# Altium footprint library CCD_CAM_BOARD_PCB_v3.PcbLib: 39 footprints (part 3 of 3)
Each footprint in its own frame and in the unit in brackets; x right, y up, seen from the top. Pads: shape width x height; smd on the part's side, far side on the other; paste and mask are expansions set on the pad; w line width, h text height; cw(c..) or ccw(c..) is an arc to the next point about the centre after c.
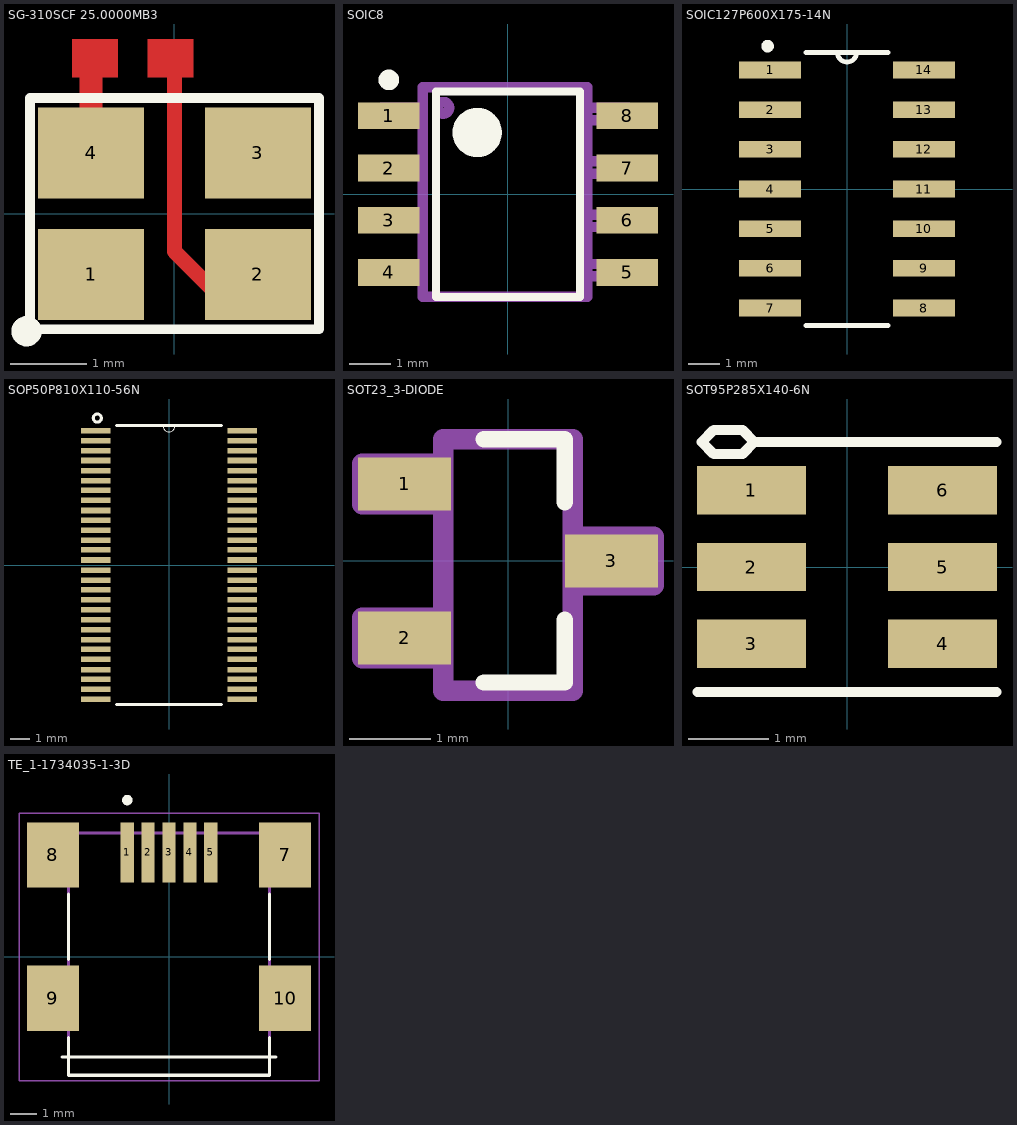
[diagram p2: the footprints below, top view; thin cyan lines are the x and y axes]

## SG-310SCF 25.0000MB3 [mm] "TAL OSC XO 25.0000MHZ CMOS SMD"
height 1.05
pads (4):
  rect 1.4x1.2 smd: 1(-1.1,-0.8) 2(1.1,-0.8) 3(1.1,0.8) 4(-1.1,0.8)
Top Layer:
  region: -1.35,2.3 -1.35,1.8 -0.75,1.8 -0.75,2.3
  region: -0.35,2.3 -0.35,1.8 0.25,1.8 0.25,2.3
  lines w0.2: 0,2.05 0,2.049 0,-0.5 0.5,-1
  lines w0.3: -1.1,0.8 -1.1,1.575 -1.1,1.616 -1.1,2.05
Top Overlay:
  circle w0.2: c-1.95,-1.55 r0.1
  lines w0.127: -1.905,-1.524 1.905,-1.524 1.905,1.524 -1.905,1.524 -1.905,-1.524
3D body "SG-310SCF.SLDPRT": height 0, standoff 0, extent -1.6,-1.25 -1.6,-1.25

## SOIC8 [mm] "8-SOIC (0.154\", 3.90mm Width)"
height 1.75
pads (8):
  rect 1.5x0.65 smd: 1(-2.9,1.905) 2(-2.9,0.635) 3(-2.9,-0.635) 4(-2.9,-1.905) 5(2.9,-1.905) 6(2.9,-0.635) 7(2.9,0.635) 8(2.9,1.905)
Top Overlay:
  circle w0.6: c-0.75,1.5 r0.3
  circle w0.25: c-2.9,2.78 r0.125
  lines w0.2: -1.75,-2.5 1.75,-2.5 1.75,2.5 -1.75,2.5 -1.75,-2.5
Top Designator:
  circle w0.254: c-1.575,2.1 r0.141
  lines w0.254: -2.075,-2 -3.075,-2 -3.075,-1.7 -2.075,-1.7 ; -2.075,-0.8 -3.075,-0.8 -3.075,-0.5 -2.075,-0.5 ; -2.075,0.5 -3.075,0.5 -3.075,0.8 -2.075,0.8 ; -2.075,1.8 -3.075,1.8 -3.075,2.1 -2.075,2.1 ; 1.925,-2 2.925,-2 2.925,-1.7 1.925,-1.7 ; 1.925,-0.8 2.925,-0.8 2.925,-0.5 1.925,-0.5 ; 1.925,0.5 2.925,0.5 2.925,0.8 1.925,0.8 ; 1.925,1.8 2.925,1.8 2.925,2.1 1.925,2.1 ; -2.075,-2.5 -2.075,2.6 1.925,2.6 1.925,-2.5 -2.075,-2.5
  text ".Designator" at -7.618,-0.508 h1.52
3D body "SOIC8.step": height 1.75, standoff 0.02, extent -2.96,-2.5 2.96,2.5

## SOIC127P600X175-14N [mil]
pads (14):
  rect 78x21 smd: 1(-97,150) 2(-97,100) 3(-97,50) 4(-97,0) 5(-97,-50) 6(-97,-100) 7(-97,-150) 8(97,-150) 9(97,-100) 10(97,-50) 11(97,0) 12(97,50) 13(97,100) 14(97,150)
Top Overlay:
  circle w7.87: c-100,180 r3.94
  lines w6: -52,-172 52,-172 ; -52,172 -12,172 ; 52,172 12,172 ; -12,172 ccw(c0,172) 12,172 ; -12,172 12,172
3D body "SOIC-14_NB.step": height 69.09, standoff 0, extent -122.01,-170.51 122.01,170.51

## SOP50P810X110-56N [mil]
pads (56):
  rect 58x11 smd: 1(-145,266) 2(-145,246) 3(-145,226) 4(-145,207) 5(-145,187) 6(-145,167) 7(-145,148) 8(-145,128) 9(-145,108) 10(-145,89) 11(-145,69) 12(-145,49) 13(-145,30) 14(-145,10) 15(-145,-10) 16(-145,-30) 17(-145,-49) 18(-145,-69) 19(-145,-89) 20(-145,-108) 21(-145,-128) 22(-145,-148) 23(-145,-167) 24(-145,-187) 25(-145,-207) 26(-145,-226) 27(-145,-246) 28(-145,-266) 29(145,-266) 30(145,-246) 31(145,-226) 32(145,-207) 33(145,-187) 34(145,-167) 35(145,-148) 36(145,-128) 37(145,-108) 38(145,-89) 39(145,-69) 40(145,-49) 41(145,-30) 42(145,-10) 43(145,10) 44(145,30) 45(145,49) 46(145,69) 47(145,89) 48(145,108) 49(145,128) 50(145,148) 51(145,167) 52(145,187) 53(145,207) 54(145,226) 55(145,246) 56(145,266)
Top Overlay:
  lines w0: -141,283 cw(c-141.98,291) -141,299 ; -12,276 ccw(c0,276) 12,276
  lines w6: -104,-276 104,-276 ; -104,276 -12,276 12,276 104,276 ; -150,291 cw(c-142,291) -134,291 cw(c-142,291) -150,291
3D body "lm98725_foot.stp": height 43.31, standoff 0, extent -161.83,-275.59 157.89,275.59

## SOT23_3-DIODE [mm] "TO-236-3, SC-59, SOT-23-3"
height 1.1
pads (3):
  rect 1.15x0.65 smd: 1(-1.275,0.95) 2(-1.275,-0.95) 3(1.275,0)
Top Overlay:
  lines w0.2: -0.3,-1.5 0.7,-1.5 0.7,-0.725 ; -0.3,1.5 0.7,1.5 0.7,0.725
Top Designator:
  lines w0.254: -0.8,-1.2 -1.8,-1.2 -1.8,-0.7 -0.8,-0.7 ; -0.8,0.7 -1.8,0.7 -1.8,1.2 -0.8,1.2 ; 0.8,-0.3 1.8,-0.3 1.8,0.3 0.8,0.3 ; -0.8,-1.6 -0.8,1.5 0.8,1.5 0.8,-1.6 -0.8,-1.6
  text ".Designator" at -0.254,3.809 h0.76
3D body "SOT23_FMMT493TA.step": height 1.1, standoff 0, extent -1.25,-1.5 1.25,1.5

## SOT95P285X140-6N [mm]
pads (6):
  rect 1.35x0.6 smd: 1(-1.185,0.95) 2(-1.185,0) 3(-1.185,-0.95) 4(1.185,-0.95) 5(1.185,0) 6(1.185,0.95)
Top Overlay:
  lines w0.127: -1.85,-1.55 1.85,-1.55 ; 1.85,1.55 -0.65,1.55 -1.15,1.55 ; -1.15,1.55 -1.3,1.7 -1.65,1.7 -1.8,1.55 -1.65,1.4 -1.3,1.4 -1.15,1.55
3D body "sot-23-6.STEP": height 1.12, standoff 0, extent -1.395,-1.45 1.45,1.471

## TE_1-1734035-1-3D [mm]
pads (9):
  rect 0.5x2.3 smd: 1(-1.6,4) 2(-0.8,4) 3(0,4) 4(0.8,4) 5(1.6,4)
  rect 2x2.5 smd: 7(4.45,3.9) 8(-4.45,3.9) 9(-4.45,-1.6) 10(4.45,-1.6)
Top Overlay:
  circle w0.2: c-1.6,6 r0.1
  lines w0.127: -4.1,-3.85 4.1,-3.85 ; -3.85,-3.1 -3.85,-4.55 3.85,-4.55 3.85,-3.1 ; -3.85,-0.1 -3.85,2.4 ; 3.85,-0.1 3.85,2.4
Mechanical 13:
  lines w0.127: -3.85,-4.41 -3.85,4.74 3.85,4.74 3.85,-4.41
Mechanical 15:
  lines w0.05: -5.75,-4.75 -5.75,5.5 5.75,5.5 5.75,-4.75 -5.75,-4.75
3D body "16m3869_1734035-2.stp": height 4.12, standoff -0.97, extent -4.95,-4.247 4.95,4.953